# Altium integrated library STM_GOST.IntLib: 2 symbols
Pins are listed as number, name and electrical type; pins without a type are passive.

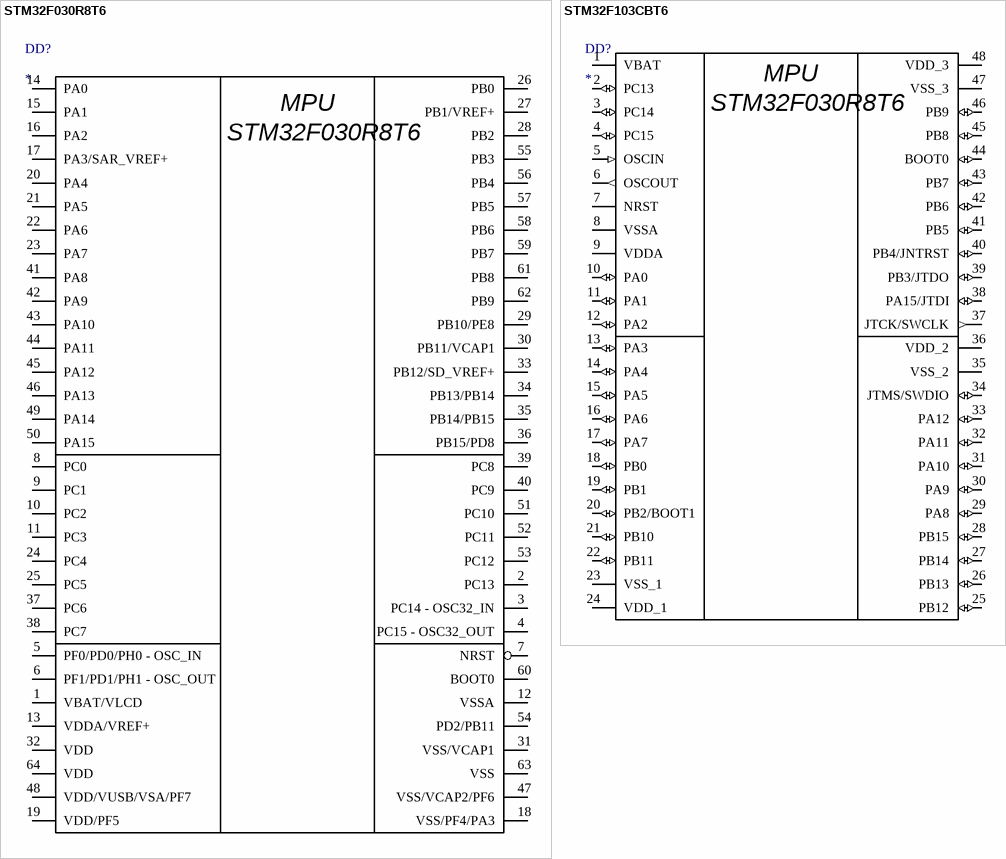
[diagram p0: symbols STM32F030R8T6 to STM32F103CBT6]

## STM32F030R8T6
designator DD?
Manufacturer: STMicroelectronics; PartNumber: STM32F030R8T6; Frequency: 48 МГц; Ta: 85 °C; Desc: Микроконтроллер ARM; ComponentLink1Description: Source; ComponentLink1URL: https://www.chipdip.ru/product/stm32f030r8t6-mikrokontroller-arm-st-microelectronics-9000247632; Package: LQFP64-10x10; ComponentLink2Description: Datasheet; ComponentLink2URL: https://static.chipdip.ru/lib/915/DOC012915875.pdf
footprint LQFP64-10x10mm
pins: 1 VBAT/VLCD, 2 PC13, 3 PC14 - OSC32_IN, 4 PC15 - OSC32_OUT, 5 PF0/PD0/PH0 - OSC_IN, 6 PF1/PD1/PH1 - OSC_OUT, 7 NRST, 8 PC0, 9 PC1, 10 PC2, 11 PC3, 12 VSSA, 13 VDDA/VREF+, 14 PA0, 15 PA1, 16 PA2, 17 PA3/SAR_VREF+, 18 VSS/PF4/PA3, 19 VDD/PF5, 20 PA4, 21 PA5, 22 PA6, 23 PA7, 24 PC4, 25 PC5, 26 PB0, 27 PB1/VREF+, 28 PB2, 29 PB10/PE8, 30 PB11/VCAP1, 31 VSS/VCAP1, 32 VDD, 33 PB12/SD_VREF+, 34 PB13/PB14, 35 PB14/PB15, 36 PB15/PD8, 37 PC6, 38 PC7, 39 PC8, 40 PC9, 41 PA8, 42 PA9, 43 PA10, 44 PA11, 45 PA12, 46 PA13, 47 VSS/VCAP2/PF6, 48 VDD/VUSB/VSA/PF7, 49 PA14, 50 PA15, 51 PC10, 52 PC11, 53 PC12, 54 PD2/PB11, 55 PB3, 56 PB4, 57 PB5, 58 PB6, 59 PB7, 60 BOOT0, 61 PB8, 62 PB9, 63 VSS, 64 VDD
text: MPU

## STM32F103CBT6
designator DD?
PartNumber: STM32F103CBT6; Manufacturer: STMicroelectronics; Desc: Микроконтроллер 32-Бит; Frequency: 72 МГц; Ta: 85 °C; ComponentLink1Description: Source; ComponentLink1URL: https://www.chipdip.ru/product/stm32f103cbt6-mikrokontroller-32-bit-st-microelectronics-9000052539; ComponentLink2Description: Datasheet; ComponentLink2URL: https://static.chipdip.ru/lib/597/DOC018597489.pdf; Package: LQFP-48
footprint LQFP48-7x7mm
pins: 1 VBAT, 2 PC13 (io), 3 PC14 (io), 4 PC15 (io), 5 OSCIN (in), 6 OSCOUT (out), 7 NRST, 8 VSSA, 9 VDDA, 10 PA0 (io), 11 PA1 (io), 12 PA2 (io), 13 PA3 (io), 14 PA4 (io), 15 PA5 (io), 16 PA6 (io), 17 PA7 (io), 18 PB0 (io), 19 PB1 (io), 20 PB2/BOOT1 (io), 21 PB10 (io), 22 PB11 (io), 23 VSS_1, 24 VDD_1, 25 PB12 (io), 26 PB13 (io), 27 PB14 (io), 28 PB15 (io), 29 PA8 (io), 30 PA9 (io), 31 PA10 (io), 32 PA11 (io), 33 PA12 (io), 34 JTMS/SWDIO (io), 35 VSS_2, 36 VDD_2, 37 JTCK/SWCLK (out), 38 PA15/JTDI (io), 39 PB3/JTDO (io), 40 PB4/JNTRST (io), 41 PB5 (io), 42 PB6 (io), 43 PB7 (io), 44 BOOT0 (io), 45 PB8 (io), 46 PB9 (io), 47 VSS_3, 48 VDD_3
text: MPU; STM32F030R8T6